# Altium schematic symbol library Metal_Opera_Inductors.SchLib: 1 symbol
Pins are listed as number, name and electrical type; pins without a type are passive.

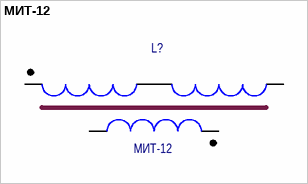
[diagram p0: symbol МИТ-12]

## МИТ-12
designator L?
footprint МИТ-12 (Трансоформатор 1:1 двахобмоточный)
pins: 1, 2, 3, 4, 5, 6